# Altium footprint library S141606050HS.PcbLib: 1 footprints
Each footprint in its own frame and in the unit in brackets; x right, y up, seen from the top. Pads: shape width x height; smd on the part's side, far side on the other; paste and mask are expansions set on the pad; w line width, h text height; cw(c..) or ccw(c..) is an arc to the next point about the centre after c.
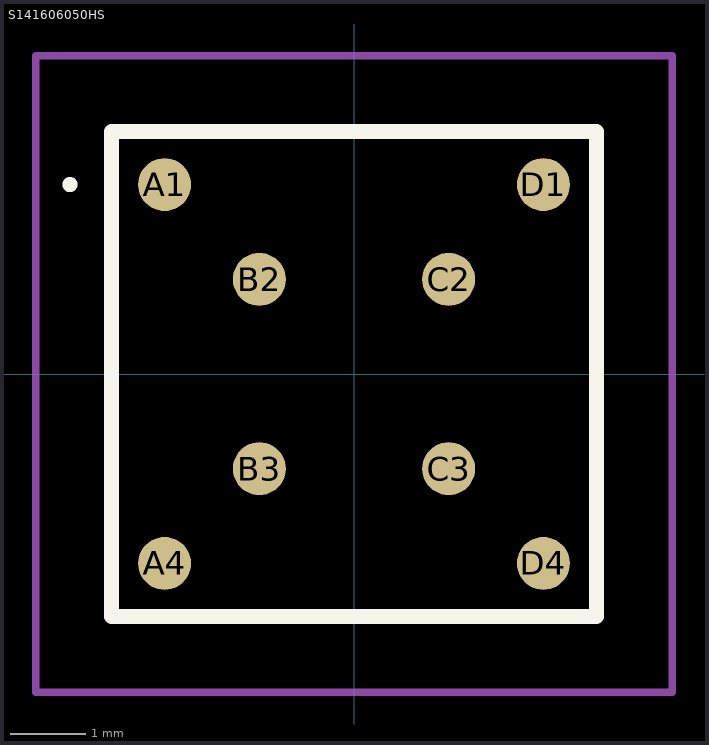
[diagram p0: the footprint, top view; thin cyan lines are the x and y axes]

## S141606050HS [mm]
pads (8):
  round 0.7 smd: A1(-2.5,2.5) A4(-2.5,-2.5) B2(-1.25,1.25) B3(-1.25,-1.25) C2(1.25,1.25) C3(1.25,-1.25) D1(2.5,2.5) D4(2.5,-2.5)
Top Overlay:
  lines w0.1: -3.8,2.5 -3.8,2.5 ; -3.8,2.5 ccw(c-3.75,2.5) -3.7,2.5 ; -3.8,2.5 cw(c-3.75,2.5) -3.7,2.5 ; -3.7,2.5 -3.7,2.5
  lines w0.2: -3.2,-3.2 3.2,-3.2 3.2,3.2 -3.2,3.2 -3.2,-3.2
Mechanical 15:
  lines w0.1: -3.2,-3.2 3.2,-3.2 3.2,3.2 -3.2,3.2 -3.2,-3.2
Mechanical 20:
  lines w0.1: -4.2,-4.2 4.2,-4.2 4.2,4.2 -4.2,4.2 -4.2,-4.2